# Altium footprint library WE-PMI.PcbLib: 9 footprints
Each footprint in its own frame and in the unit in brackets; x right, y up, seen from the top. Pads: shape width x height; smd on the part's side, far side on the other; paste and mask are expansions set on the pad; w line width, h text height; cw(c..) or ccw(c..) is an arc to the next point about the centre after c.
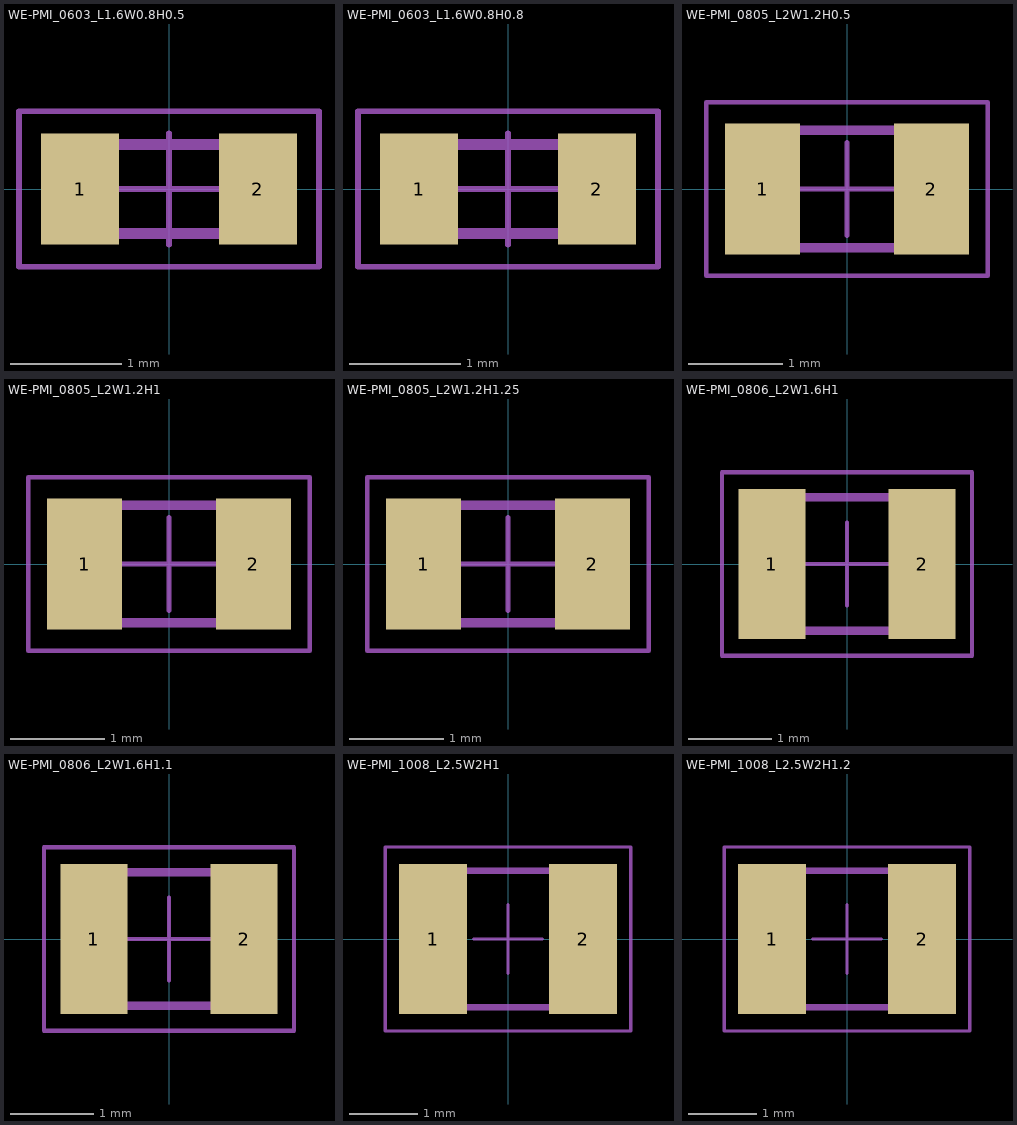
[diagram p0: the footprints below, top view; thin cyan lines are the x and y axes]

## WE-PMI_0603_L1.6W0.8H0.5 [mm] "Power Multilayer Inductor, body 1.6x0.8mm"
height 0.5
pads (2):
  rect 0.7x1 smd: 1(-0.8,0) 2(0.8,0)
Top Designator:
  text ".Designator" at -2.499,-0.167 h0.5
Top Component Outline:
  lines w0.1: -0.8,-0.4 0.8,-0.4 0.8,0.4 -0.8,0.4 -0.8,-0.4
Top 3D Body:
  lines w0.1: -0.8,-0.4 -0.8,0.4 0.8,0.4 0.8,-0.4 -0.8,-0.4
Top Courtyard:
  lines w0.05: -0.5,0 0.5,0 ; 0,-0.5 0,0.5 ; -1.35,-0.7 1.35,-0.7 1.35,0.7 -1.35,0.7 -1.35,-0.7
3D body "74479762xxx_0603.stp": height 0.5, standoff 0, extent -0.8,-0.4 0.8,0.4

## WE-PMI_0603_L1.6W0.8H0.8 [mm] "Power Multilayer Inductor, body 1.6x0.8mm"
height 0.8
pads (2):
  rect 0.7x1 smd: 1(-0.8,0) 2(0.8,0)
Top Designator:
  text ".Designator" at -2.499,-0.167 h0.5
Top Component Outline:
  lines w0.1: -0.8,-0.4 -0.8,0.4 0.8,0.4 0.8,-0.4 -0.8,-0.4
Top 3D Body:
  lines w0.1: -0.8,-0.4 0.8,-0.4 0.8,0.4 -0.8,0.4 -0.8,-0.4
Top Courtyard:
  lines w0.05: -0.5,0 0.5,0 ; 0,-0.5 0,0.5 ; -1.35,-0.7 -1.35,0.7 1.35,0.7 1.35,-0.7 -1.35,-0.7
3D body "74479763xxx_0603.stp": height 0.8, standoff 0, extent -0.8,-0.4 0.8,0.4

## WE-PMI_0805_L2W1.2H0.5 [mm] "Power Multilayer Inductor, body 2x1.25mm"
height 0.5
pads (2):
  rect 0.8x1.4 smd: 1(-0.9,0) 2(0.9,0)
Top Designator:
  text ".Designator" at -3.499,-0.233 h0.7
Top Component Outline:
  lines w0.1: -1,-0.625 1,-0.625 1,0.625 -1,0.625 -1,-0.625
Top 3D Body:
  lines w0.1: -1,-0.625 -1,0.625 1,0.625 1,-0.625 -1,-0.625
Top Courtyard:
  lines w0.05: -0.5,0 0.5,0 ; 0,-0.5 0,0.5 ; -1.5,-0.925 1.5,-0.925 1.5,0.925 -1.5,0.925 -1.5,-0.925
3D body "74479774xxx_0805.stp": height 0.5, standoff 0, extent -1,-0.625 1,0.625

## WE-PMI_0805_L2W1.2H1 [mm] "Power Multilayer Inductor, body 2x1.2mm"
height 1
pads (2):
  rect 0.8x1.4 smd: 1(-0.9,0) 2(0.9,0)
Top Designator:
  text ".Designator" at -3.499,-0.233 h0.7
Top Component Outline:
  lines w0.1: -1,-0.625 1,-0.625 1,0.625 -1,0.625 -1,-0.625
Top 3D Body:
  lines w0.1: -1,-0.625 -1,0.625 1,0.625 1,-0.625 -1,-0.625
Top Courtyard:
  lines w0.05: -0.5,0 0.5,0 ; 0,-0.5 0,0.5 ; -1.5,-0.925 1.5,-0.925 1.5,0.925 -1.5,0.925 -1.5,-0.925
3D body "0805_74479875xxx.stp": height 1, standoff 0, extent -1,-0.625 1,0.625

## WE-PMI_0805_L2W1.2H1.25 [mm] "Power Multilayer Inductor, body 2x1.2mm"
height 1.25
pads (2):
  rect 0.8x1.4 smd: 1(-0.9,0) 2(0.9,0)
Top Designator:
  text ".Designator" at -3.499,-0.233 h0.7
Top Component Outline:
  lines w0.1: -1,-0.625 -1,0.625 1,0.625 1,-0.625 -1,-0.625
Top 3D Body:
  lines w0.1: -1,-0.625 1,-0.625 1,0.625 -1,0.625 -1,-0.625
Top Courtyard:
  lines w0.05: -0.5,0 0.5,0 ; 0,-0.5 0,0.5 ; -1.5,-0.925 -1.5,0.925 1.5,0.925 1.5,-0.925 -1.5,-0.925
3D body "74479777xxx_0805.stp": height 1.25, standoff 0, extent -1,-0.625 1,0.625

## WE-PMI_0806_L2W1.6H1 [mm] "Power Multilayer Inductor, body 2x1.6mm"
height 1
pads (2):
  rect 0.8x1.8 smd: 1(-0.9,0) 2(0.9,0)
Top Designator:
  text ".Designator" at -3.499,-0.233 h0.7
Top Component Outline:
  lines w0.1: -1,-0.8 1,-0.8 1,0.8 -1,0.8 -1,-0.8
Top 3D Body:
  lines w0.1: -1,-0.8 -1,0.8 1,0.8 1,-0.8 -1,-0.8
Top Courtyard:
  lines w0.05: -0.5,0 0.5,0 ; 0,-0.5 0,0.5 ; -1.5,-1.1 1.5,-1.1 1.5,1.1 -1.5,1.1 -1.5,-1.1
3D body "74479776xxx_0806.stp": height 1, standoff 0, extent -1,-0.8 1,0.8

## WE-PMI_0806_L2W1.6H1.1 [mm] "Power Multilayer Inductor, body 2x1.6mm"
height 1.1
pads (2):
  rect 0.8x1.8 smd: 1(-0.9,0) 2(0.9,0)
Top Designator:
  text ".Designator" at -3.499,-0.233 h0.7
Top Component Outline:
  lines w0.1: -1,-0.8 -1,0.8 1,0.8 1,-0.8 -1,-0.8
Top 3D Body:
  lines w0.1: -1,-0.8 1,-0.8 1,0.8 -1,0.8 -1,-0.8
Top Courtyard:
  lines w0.05: -0.5,0 0.5,0 ; 0,-0.5 0,0.5 ; -1.5,-1.1 -1.5,1.1 1.5,1.1 1.5,-1.1 -1.5,-1.1
3D body "74479778xxx_0806.stp": height 1.1, standoff 0, extent -1,-0.8 1,0.8

## WE-PMI_1008_L2.5W2H1 [mm] "Power Multilayer Inductor, body 2.5x2mm"
height 1
pads (2):
  rect 1x2.2 smd: 1(-1.1,0) 2(1.1,0)
Top Designator:
  text ".Designator" at -3.499,-0.233 h0.7
Top Component Outline:
  lines w0.1: -1.25,-1 -1.25,1 1.25,1 1.25,-1 -1.25,-1
Top 3D Body:
  lines w0.1: -1.25,-1 1.25,-1 1.25,1 -1.25,1 -1.25,-1
Top Courtyard:
  lines w0.05: -0.5,0 0.5,0 ; 0,-0.5 0,0.5 ; -1.8,-1.35 -1.8,1.35 1.8,1.35 1.8,-1.35 -1.8,-1.35
3D body "74479787xxxA_1008.stp": height 1, standoff 0, extent -1.25,-1 1.25,1

## WE-PMI_1008_L2.5W2H1.2 [mm] "Power Multilayer Inductor, body 2.5x2mm"
height 1.2
pads (2):
  rect 1x2.2 smd: 1(-1.1,0) 2(1.1,0)
Top Designator:
  text ".Designator" at -3.499,-0.233 h0.7
Top Component Outline:
  lines w0.1: -1.25,-1 1.25,-1 1.25,1 -1.25,1 -1.25,-1
Top 3D Body:
  lines w0.1: -1.25,-1 -1.25,1 1.25,1 1.25,-1 -1.25,-1
Top Courtyard:
  lines w0.05: -0.5,0 0.5,0 ; 0,-0.5 0,0.5 ; -1.8,-1.35 1.8,-1.35 1.8,1.35 -1.8,1.35 -1.8,-1.35
3D body "74479889xxx_1008.stp": height 1.2, standoff 0, extent -1.25,-1 1.25,1